# Altium footprint library EPCOS_B82462G4.PcbLib: 1 footprints
Each footprint in its own frame and in the unit in brackets; x right, y up, seen from the top. Pads: shape width x height; smd on the part's side, far side on the other; paste and mask are expansions set on the pad; w line width, h text height; cw(c..) or ccw(c..) is an arc to the next point about the centre after c.
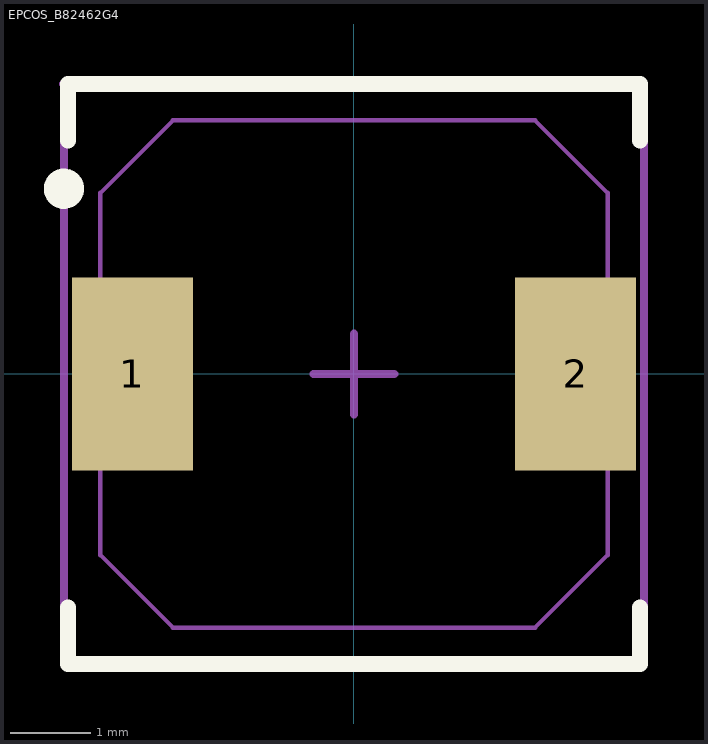
[diagram p0: the footprint, top view; thin cyan lines are the x and y axes]

## EPCOS_B82462G4 [mm] "Power inductor,  shielded, 6.3 x 6.3 x 3 mm"
height 5.2
pads (2):
  rect 1.5x2.4 smd: 1(-2.75,0) 2(2.75,0)
Top Overlay:
  circle w0.25: c-3.6,2.3 r0.125
  lines w0.2: -3.55,-2.9 -3.55,-3.6 3.55,-3.6 3.55,-2.9 ; -3.55,2.9 -3.55,3.6 3.55,3.6 3.55,2.9
Mechanical 13:
  lines w0.1: -3.612,3.598 3.588,3.598 ; -3.6,3.6 -3.6,-3.6 3.6,-3.6 3.6,3.6
Mechanical 15:
  lines w0.05: -3.15,-2.25 -2.25,-3.15 2.25,-3.15 3.15,-2.25 3.15,2.25 2.25,3.15 -2.25,3.15 -3.15,2.25 -3.15,-2.25
Mechanical 2 (Mech9):
  lines w0.1: -0.5,0 0.5,0 ; 0,-0.5 0,0.5
3D body "B82462g4.step": height 2.19, standoff -0.73, extent -5.243,-5.243 5.276,5.276